# Altium schematic symbol library ic-fpga.SchLib: 3 symbols
Pins are listed as number, name and electrical type; pins without a type are passive.

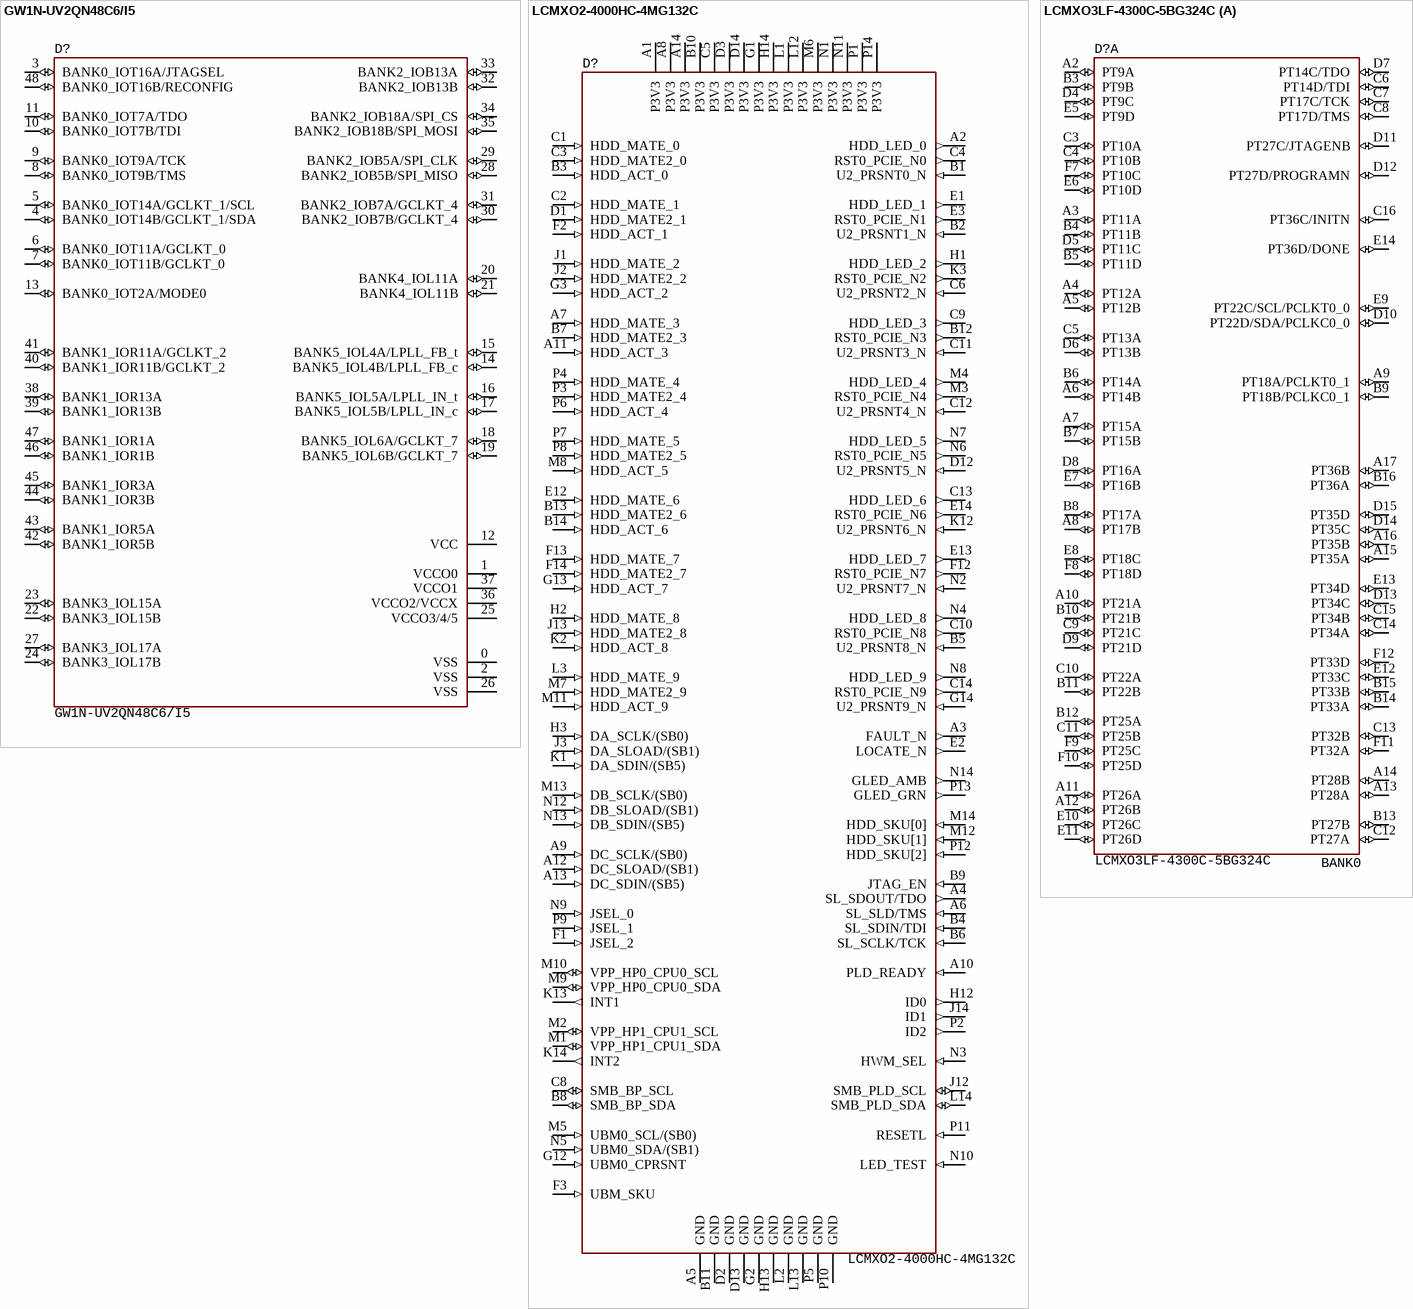
[diagram p0: symbols GW1N-UV2QN48C6/I5 to LCMXO3LF-4300C-5BG324C]

## GW1N-UV2QN48C6/I5
designator D?
FPGA, 2304 LUT, 72 kbit RAM, 96 Kb ROM, 40I/O, supply 1.71...3.6V, QFN-48, -40...+100°C; Manufacturer: Gowin; Package: QFN-48 (6x6); HelpURL: https://www.gowinsemi.com/en/product/detail/46/; Component Type: FPGA; PartNumber: GW1N-UV2QN48C6/I5
footprint 48-QFN (6x6, pitch 0.4) (6x6 mm, pitch 0.4 mm, power pad)
pins: 0 VSS, 1 VCCO0, 2 VSS, 3 BANK0_IOT16A/JTAGSEL (io), 4 BANK0_IOT14B/GCLKT_1/SDA (io), 5 BANK0_IOT14A/GCLKT_1/SCL (io), 6 BANK0_IOT11A/GCLKT_0 (io), 7 BANK0_IOT11B/GCLKT_0 (io), 8 BANK0_IOT9B/TMS (io), 9 BANK0_IOT9A/TCK (io), 10 BANK0_IOT7B/TDI (io), 11 BANK0_IOT7A/TDO (io), 12 VCC, 13 BANK0_IOT2A/MODE0 (io), 14 BANK5_IOL4B/LPLL_FB_c (io), 15 BANK5_IOL4A/LPLL_FB_t (io), 16 BANK5_IOL5A/LPLL_IN_t (io), 17 BANK5_IOL5B/LPLL_IN_c (io), 18 BANK5_IOL6A/GCLKT_7 (io), 19 BANK5_IOL6B/GCLKT_7 (io), 20 BANK4_IOL11A (io), 21 BANK4_IOL11B (io), 22 BANK3_IOL15B (io), 23 BANK3_IOL15A (io), 24 BANK3_IOL17B (io), 25 VCCO3/4/5, 26 VSS, 27 BANK3_IOL17A (io), 28 BANK2_IOB5B/SPI_MISO (io), 29 BANK2_IOB5A/SPI_CLK (io), 30 BANK2_IOB7B/GCLKT_4 (io), 31 BANK2_IOB7A/GCLKT_4 (io), 32 BANK2_IOB13B (io), 33 BANK2_IOB13A (io), 34 BANK2_IOB18A/SPI_CS (io), 35 BANK2_IOB18B/SPI_MOSI (io), 36 VCCO2/VCCX, 37 VCCO1, 38 BANK1_IOR13A (io), 39 BANK1_IOR13B (io), 40 BANK1_IOR11B/GCLKT_2 (io), 41 BANK1_IOR11A/GCLKT_2 (io), 42 BANK1_IOR5B (io), 43 BANK1_IOR5A (io), 44 BANK1_IOR3B (io), 45 BANK1_IOR3A (io), 46 BANK1_IOR1B (io), 47 BANK1_IOR1A (io), 48 BANK0_IOT16B/RECONFIG (io)

## LCMXO2-4000HC-4MG132C
designator D?
FPGA, MachXO2, 4320LE, 269MHz, 104I/O, supply core 2.5/3.3V, CSBGA-132, 0...+85°C; Manufacturer: Lattice; Manufacturer: Lattice Semiconductor; Package: CSBGA-132; HelpURL: https://ru.mouser.com/ProductDetail/Lattice/LCMXO2-4000HC-4MG132C?qs=%2Fha2pyFadug4qQS%252BHxBOxfHfkEiwA7lLMaaKXPIBh7y08ajpLXlKWCPof33Vv4Hg; Manufacturer Part Number: LCMXO2-4000HC-4MG132C; Component Type: FPGA; PartNumber: LCMXO2-4000HC-4MG132C
footprint 132-CSBGA (8x8, pitch 0.5) (CSBGA, 132-Leads, Body 8,00x8,00mmx1,35mm, Pitch 0,50mm)
pins: A1 P3V3 (power), A2 HDD_LED_0 (out), A3 FAULT_N (out), A4 SL_SDOUT/TDO (out), A5 GND (power), A6 SL_SLD/TMS (in), A7 HDD_MATE_3 (in), A8 P3V3 (power), A9 DC_SCLK/(SB0) (in), A10 PLD_READY (in), A11 HDD_ACT_3 (in), A12 DC_SLOAD/(SB1) (in), A13 DC_SDIN/(SB5) (in), A14 P3V3 (power), B1 U2_PRSNT0_N (in), B2 U2_PRSNT1_N (in), B3 HDD_ACT_0 (in), B4 SL_SDIN/TDI (in), B5 U2_PRSNT8_N (in), B6 SL_SCLK/TCK (in), B7 HDD_MATE2_3 (in), B8 SMB_BP_SDA (io), B9 JTAG_EN (in), B10 P3V3 (power), B11 GND (power), B12 RST0_PCIE_N3 (out), B13 HDD_MATE2_6 (in), B14 HDD_ACT_6 (in), C1 HDD_MATE_0 (in), C2 HDD_MATE_1 (in), C3 HDD_MATE2_0 (in), C4 RST0_PCIE_N0 (out), C5 P3V3 (power), C6 U2_PRSNT2_N (in), C8 SMB_BP_SCL (io), C9 HDD_LED_3 (out), C10 RST0_PCIE_N8 (out), C11 U2_PRSNT3_N (in), C12 U2_PRSNT4_N (in), C13 HDD_LED_6 (out), C14 RST0_PCIE_N9 (out), D1 HDD_MATE2_1 (in), D2 GND (power), D3 P3V3 (power), D12 U2_PRSNT5_N (in), D13 GND (power), D14 P3V3 (power), E1 HDD_LED_1 (out), E2 LOCATE_N (out), E3 RST0_PCIE_N1 (out), E12 HDD_MATE_6 (in), E13 HDD_LED_7 (out), E14 RST0_PCIE_N6 (out), F1 JSEL_2 (in), F2 HDD_ACT_1 (in), F3 UBM_SKU (in), F12 RST0_PCIE_N7 (out), F13 HDD_MATE_7 (in), F14 HDD_MATE2_7 (in), G1 P3V3 (power), G2 GND (power), G3 HDD_ACT_2 (in), G12 UBM0_CPRSNT (in), G13 HDD_ACT_7 (in), G14 U2_PRSNT9_N (in), H1 HDD_LED_2 (out), H2 HDD_MATE_8 (in), H3 DA_SCLK/(SB0) (in), H12 ID0 (out), H13 GND (power), H14 P3V3 (power), J1 HDD_MATE_2 (in), J2 HDD_MATE2_2 (in), J3 DA_SLOAD/(SB1) (in), J12 SMB_PLD_SCL (io), J13 HDD_MATE2_8 (in), J14 ID1 (out), K1 DA_SDIN/(SB5) (in), K2 HDD_ACT_8 (in), K3 RST0_PCIE_N2 (out), K12 U2_PRSNT6_N (in), K13 INT1 (out), K14 INT2 (out), L1 P3V3 (power), L2 GND (power), L3 HDD_MATE_9 (in), L12 P3V3 (power), L13 GND (power), L14 SMB_PLD_SDA (io), M1 VPP_HP1_CPU1_SDA (io), M2 VPP_HP1_CPU1_SCL (io), M3 RST0_PCIE_N4 (out), M4 HDD_LED_4 (out), M5 UBM0_SCL/(SB0) (in), M6 P3V3 (power), M7 HDD_MATE2_9 (in), M8 HDD_ACT_5 (in), M9 VPP_HP0_CPU0_SDA (io), M10 VPP_HP0_CPU0_SCL (io), M11 HDD_ACT_9 (in), M12 HDD_SKU[1] (in), M13 DB_SCLK/(SB0) (in), M14 HDD_SKU[0] (in), N1 P3V3 (power), N2 U2_PRSNT7_N (in), N3 HWM_SEL (in), N4 HDD_LED_8 (out), N5 UBM0_SDA/(SB1) (in), N6 RST0_PCIE_N5 (out), N7 HDD_LED_5 (out), N8 HDD_LED_9 (out), N9 JSEL_0 (in), N10 LED_TEST (in), N11 P3V3 (power), N12 DB_SLOAD/(SB1) (in), N13 DB_SDIN/(SB5) (in), N14 GLED_AMB (out), P1 P3V3 (power), P2 ID2 (out), P3 HDD_MATE2_4 (in), P4 HDD_MATE_4 (in), P5 GND (power), P6 HDD_ACT_4 (in), P7 HDD_MATE_5 (in), P8 HDD_MATE2_5 (in), P9 JSEL_1 (in), P10 GND (power), P11 RESETL (in), P12 HDD_SKU[2] (in), P13 GLED_GRN (out), P14 P3V3 (power)

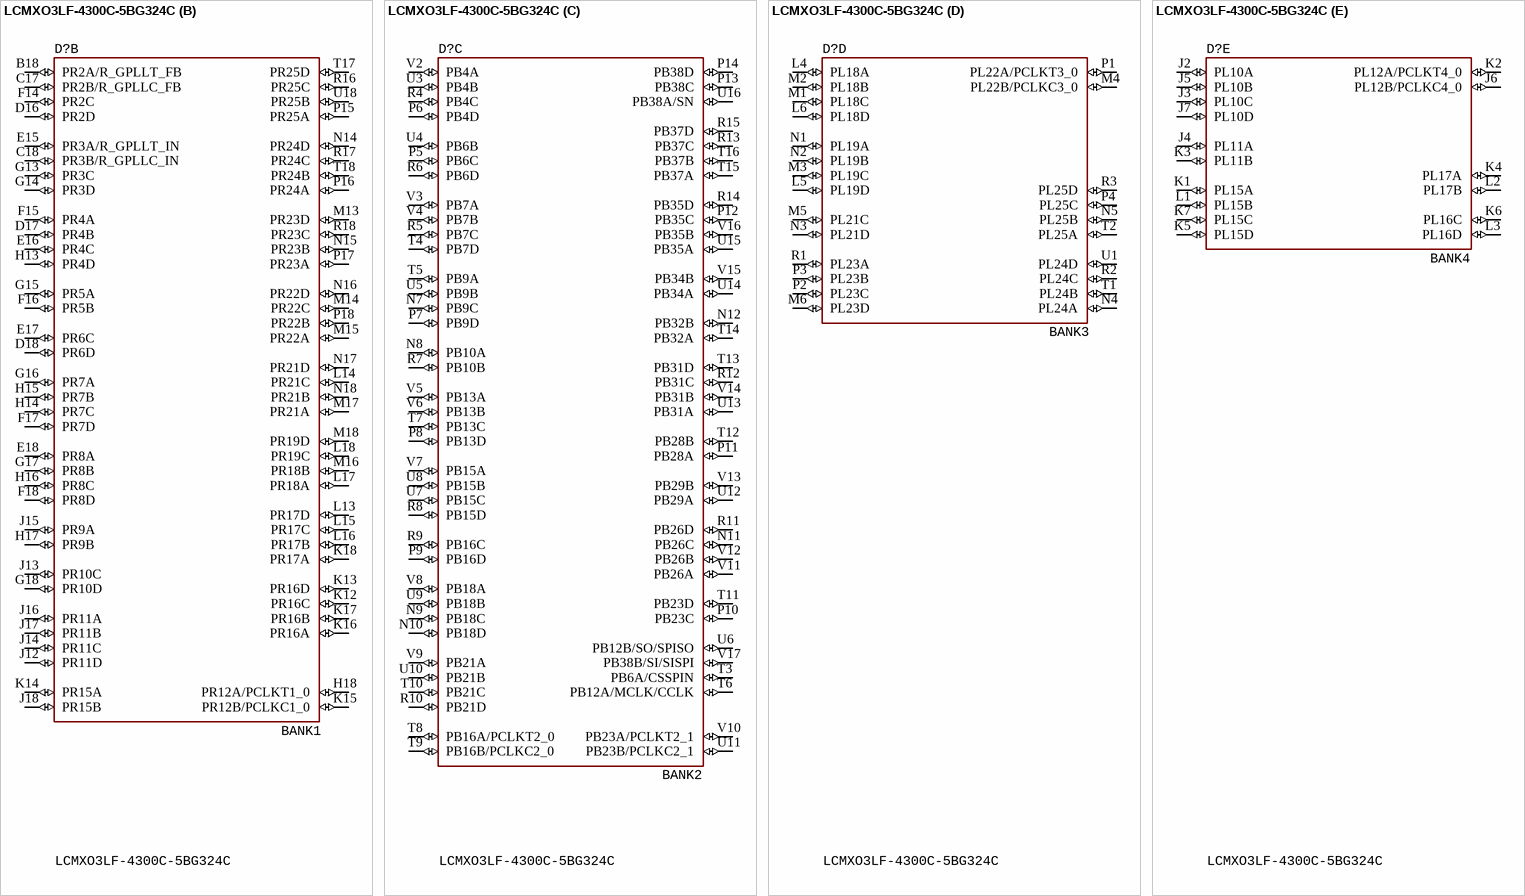
[diagram p1: symbol LCMXO3LF-4300C-5BG324C]

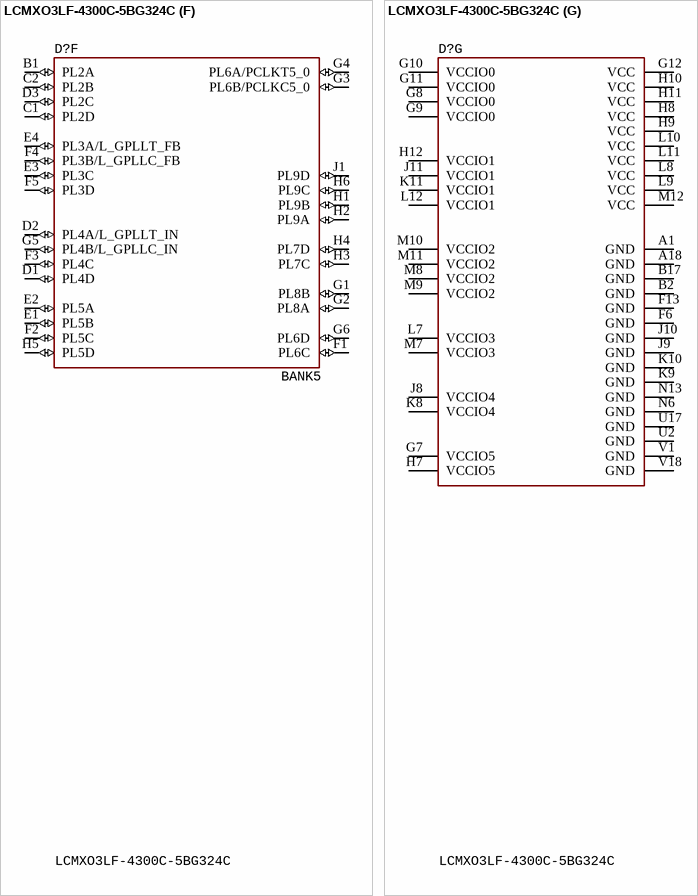
[diagram p2: symbol LCMXO3LF-4300C-5BG324C]

## LCMXO3LF-4300C-5BG324C
designator D?
FPGA, 4300LE, 92kbit, 400MHz, 279I/O, supply 2.5/3.3V, caBGA-324, 0...+85°C; Manufacturer: Lattice; Manufacturer: Lattice Semiconductor; HelpURL: https://ru.mouser.com/ProductDetail/Lattice/LCMXO3LF-4300C-5BG324C?qs=%2Fha2pyFaduhzvY%2F96NMPMkKw0kXCZfM2a4UG7o3w5ZweD3QsibMSh7EoxXRf%252Bl4%2F; Package: csBGA-324 (15x15); Manufacturer Part Number: LCMXO3LF-4300C-5BG324C; Component Type: FPGA; PartNumber: LCMXO3LF-4300C-5BG324C
footprint 324-BGA (15x15, pitch 0.8) (Pitch 0.8 mm)
part A pins: A2 PT9A (io), A3 PT11A (io), A4 PT12A (io), A5 PT12B (io), A6 PT14B (io), A7 PT15A (io), A8 PT17B (io), A9 PT18A/PCLKT0_1 (io), A10 PT21A (io), A11 PT26A (io), A12 PT26B (io), A13 PT28A (io), A14 PT28B (io), A15 PT35A (io), A16 PT35B (io), A17 PT36B (io), B3 PT9B (io), B4 PT11B (io), B5 PT11D (io), B6 PT14A (io), B7 PT15B (io), B8 PT17A (io), B9 PT18B/PCLKC0_1 (io), B10 PT21B (io), B11 PT22B (io), B12 PT25A (io), B13 PT27B (io), B14 PT33A (io), B15 PT33B (io), B16 PT36A (io), C3 PT10A (io), C4 PT10B (io), C5 PT13A (io), C6 PT14D/TDI (io), C7 PT17C/TCK (io), C8 PT17D/TMS (io), C9 PT21C (io), C10 PT22A (io), C11 PT25B (io), C12 PT27A (io), C13 PT32B (io), C14 PT34A (io), C15 PT34B (io), C16 PT36C/INITN (io), D4 PT9C (io), D5 PT11C (io), D6 PT13B (io), D7 PT14C/TDO (io), D8 PT16A (io), D9 PT21D (io), D10 PT22D/SDA/PCLKC0_0 (io), D11 PT27C/JTAGENB (io), D12 PT27D/PROGRAMN (io), D13 PT34C (io), D14 PT35C (io), D15 PT35D (io), E5 PT9D (io), E6 PT10D (io), E7 PT16B (io), E8 PT18C (io), E9 PT22C/SCL/PCLKT0_0 (io), E10 PT26C (io), E11 PT26D (io), E12 PT33C (io), E13 PT34D (io), E14 PT36D/DONE (io), F7 PT10C (io), F8 PT18D (io), F9 PT25C (io), F10 PT25D (io), F11 PT32A (io), F12 PT33D (io)
part B pins: B18 PR2A/R_GPLLT_FB (io), C17 PR2B/R_GPLLC_FB (io), C18 PR3B/R_GPLLC_IN (io), D16 PR2D (io), D17 PR4B (io), D18 PR6D (io), E15 PR3A/R_GPLLT_IN (io), E16 PR4C (io), E17 PR6C (io), E18 PR8A (io), F14 PR2C (io), F15 PR4A (io), F16 PR5B (io), F17 PR7D (io), F18 PR8D (io), G13 PR3C (io), G14 PR3D (io), G15 PR5A (io), G16 PR7A (io), G17 PR8B (io), G18 PR10D (io), H13 PR4D (io), H14 PR7C (io), H15 PR7B (io), H16 PR8C (io), H17 PR9B (io), H18 PR12A/PCLKT1_0 (io), J12 PR11D (io), J13 PR10C (io), J14 PR11C (io), J15 PR9A (io), J16 PR11A (io), J17 PR11B (io), J18 PR15B (io), K12 PR16C (io), K13 PR16D (io), K14 PR15A (io), K15 PR12B/PCLKC1_0 (io), K16 PR16A (io), K17 PR16B (io), K18 PR17A (io), L13 PR17D (io), L14 PR21C (io), L15 PR17C (io), L16 PR17B (io), L17 PR18A (io), L18 PR19C (io), M13 PR23D (io), M14 PR22C (io), M15 PR22A (io), M16 PR18B (io), M17 PR21A (io), M18 PR19D (io), N14 PR24D (io), N15 PR23B (io), N16 PR22D (io), N17 PR21D (io), N18 PR21B (io), P15 PR25A (io), P16 PR24A (io), P17 PR23A (io), P18 PR22B (io), R16 PR25C (io), R17 PR24C (io), R18 PR23C (io), T17 PR25D (io), T18 PR24B (io), U18 PR25B (io)
part C pins: N7 PB9C (io), N8 PB10A (io), N9 PB18C (io), N10 PB18D (io), N11 PB26C (io), N12 PB32B (io), P5 PB6C (io), P6 PB4D (io), P7 PB9D (io), P8 PB13D (io), P9 PB16D (io), P10 PB23C (io), P11 PB28A (io), P12 PB35C (io), P13 PB38C (io), P14 PB38D (io), R4 PB4C (io), R5 PB7C (io), R6 PB6D (io), R7 PB10B (io), R8 PB15D (io), R9 PB16C (io), R10 PB21D (io), R11 PB26D (io), R12 PB31C (io), R13 PB37C (io), R14 PB35D (io), R15 PB37D (io), T3 PB6A/CSSPIN (io), T4 PB7D (io), T5 PB9A (io), T6 PB12A/MCLK/CCLK (io), T7 PB13C (io), T8 PB16A/PCLKT2_0 (io), T9 PB16B/PCLKC2_0 (io), T10 PB21C (io), T11 PB23D (io), T12 PB28B (io), T13 PB31D (io), T14 PB32A (io), T15 PB37A (io), T16 PB37B (io), U3 PB4B (io), U4 PB6B (io), U5 PB9B (io), U6 PB12B/SO/SPISO (io), U7 PB15C (io), U8 PB15B (io), U9 PB18B (io), U10 PB21B (io), U11 PB23B/PCLKC2_1 (io), U12 PB29A (io), U13 PB31A (io), U14 PB34A (io), U15 PB35A (io), U16 PB38A/SN (io), V2 PB4A (io), V3 PB7A (io), V4 PB7B (io), V5 PB13A (io), V6 PB13B (io), V7 PB15A (io), V8 PB18A (io), V9 PB21A (io), V10 PB23A/PCLKT2_1 (io), V11 PB26A (io), V12 PB26B (io), V13 PB29B (io), V14 PB31B (io), V15 PB34B (io), V16 PB35B (io), V17 PB38B/SI/SISPI (io)
part D pins: L4 PL18A (io), L5 PL19D (io), L6 PL18D (io), M1 PL18C (io), M2 PL18B (io), M3 PL19C (io), M4 PL22B/PCLKC3_0 (io), M5 PL21C (io), M6 PL23D (io), N1 PL19A (io), N2 PL19B (io), N3 PL21D (io), N4 PL24A (io), N5 PL25B (io), P1 PL22A/PCLKT3_0 (io), P2 PL23C (io), P3 PL23B (io), P4 PL25C (io), R1 PL23A (io), R2 PL24C (io), R3 PL25D (io), T1 PL24B (io), T2 PL25A (io), U1 PL24D (io)
part E pins: J2 PL10A (io), J3 PL10C (io), J4 PL11A (io), J5 PL10B (io), J6 PL12B/PCLKC4_0 (io), J7 PL10D (io), K1 PL15A (io), K2 PL12A/PCLKT4_0 (io), K3 PL11B (io), K4 PL17A (io), K5 PL15D (io), K6 PL16C (io), K7 PL15C (io), L1 PL15B (io), L2 PL17B (io), L3 PL16D (io)
part F pins: B1 PL2A (io), C1 PL2D (io), C2 PL2B (io), D1 PL4D (io), D2 PL4A/L_GPLLT_IN (io), D3 PL2C (io), E1 PL5B (io), E2 PL5A (io), E3 PL3C (io), E4 PL3A/L_GPLLT_FB (io), F1 PL6C (io), F2 PL5C (io), F3 PL4C (io), F4 PL3B/L_GPLLC_FB (io), F5 PL3D (io), G1 PL8B (io), G2 PL8A (io), G3 PL6B/PCLKC5_0 (io), G4 PL6A/PCLKT5_0 (io), G5 PL4B/L_GPLLC_IN (io), G6 PL6D (io), H1 PL9B (io), H2 PL9A (io), H3 PL7C (io), H4 PL7D (io), H5 PL5D (io), H6 PL9C (io), J1 PL9D (io)
part G pins: A1 GND (power), A18 GND (power), B2 GND (power), B17 GND (power), F6 GND (power), F13 GND (power), G7 VCCIO5 (power), G8 VCCIO0 (power), G9 VCCIO0 (power), G10 VCCIO0 (power), G11 VCCIO0 (power), G12 VCC (power), H7 VCCIO5 (power), H8 VCC (power), H9 VCC (power), H10 VCC (power), H11 VCC (power), H12 VCCIO1 (power), J8 VCCIO4 (power), J9 GND (power), J10 GND (power), J11 VCCIO1 (power), K8 VCCIO4 (power), K9 GND (power), K10 GND (power), K11 VCCIO1 (power), L7 VCCIO3 (power), L8 VCC (power), L9 VCC (power), L10 VCC (power), L11 VCC (power), L12 VCCIO1 (power), M7 VCCIO3 (power), M8 VCCIO2 (power), M9 VCCIO2 (power), M10 VCCIO2 (power), M11 VCCIO2 (power), M12 VCC (power), N6 GND (power), N13 GND (power), U2 GND (power), U17 GND (power), V1 GND (power), V18 GND (power)
part A text: BANK0
part B text: BANK1
part C text: BANK2
part D text: BANK3
part E text: BANK4
part F text: BANK5